# Altium schematic symbol library Блок вычислительный 1b.SchLib: 64 symbols
Pins are listed as number, name and electrical type; pins without a type are passive.

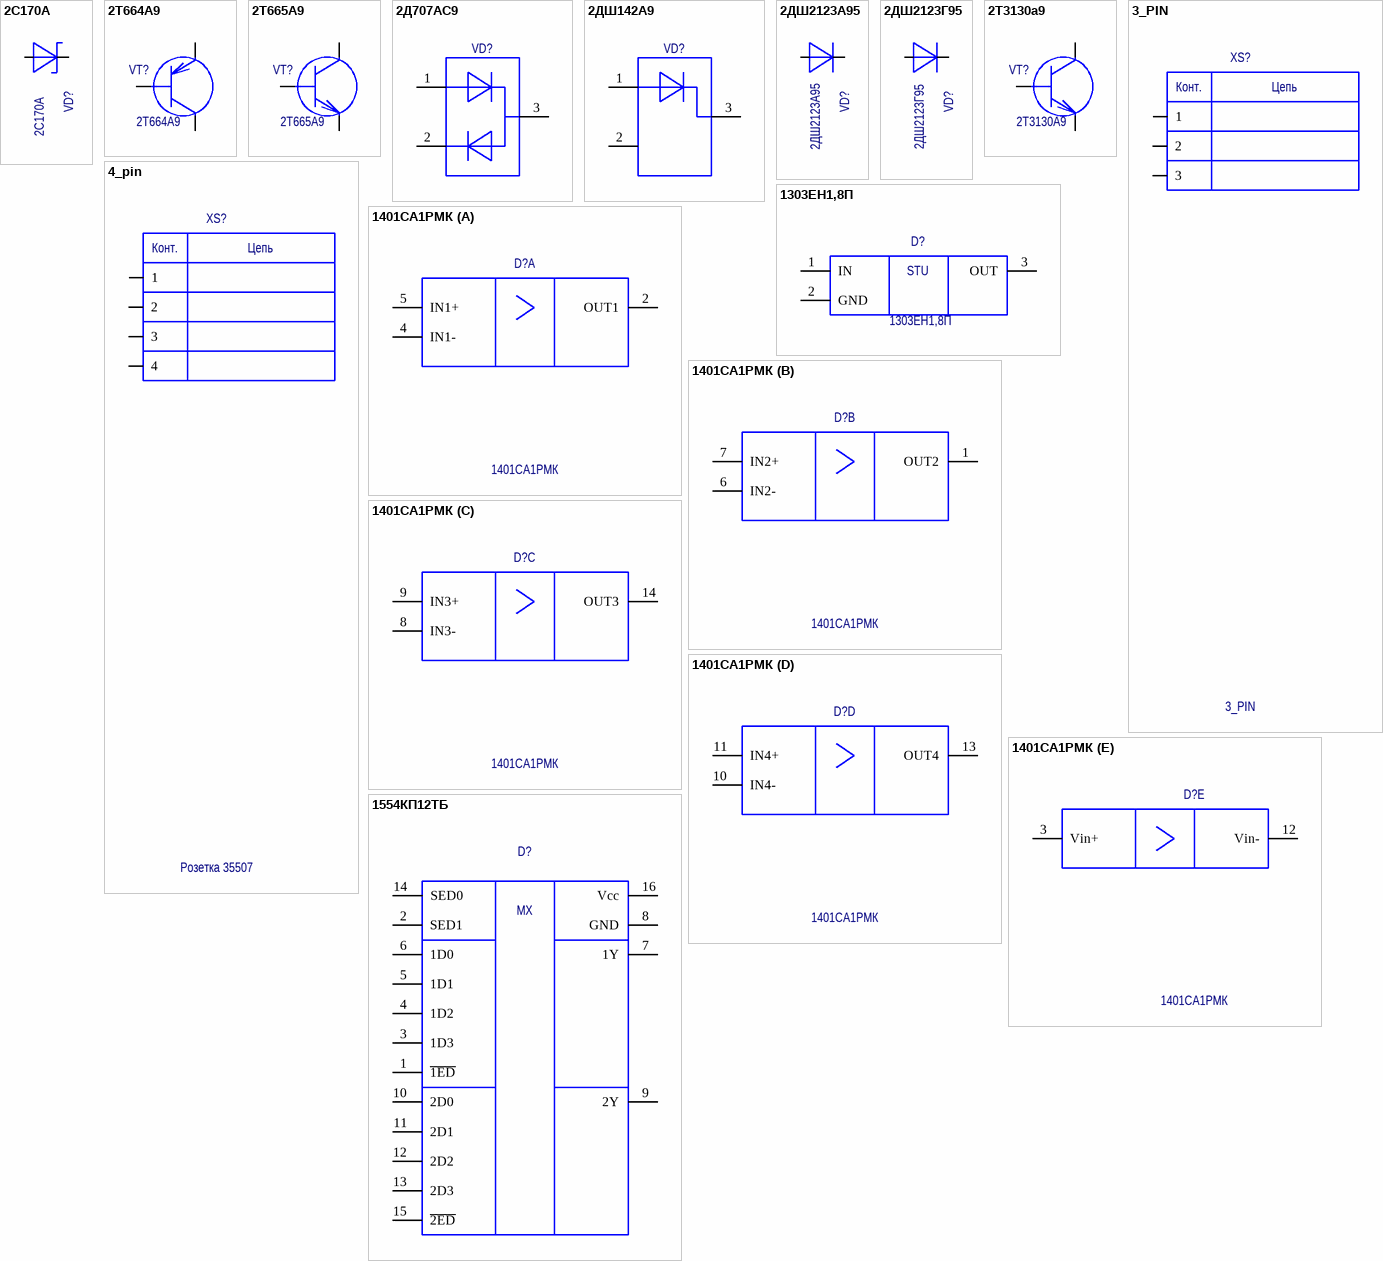
[diagram p0: symbols 2C170A to 1554КП12ТБ]

## 2C170A
designator VD?, comment 2С170А
сбтабилитрон на 7В; TU: ХЫ3.369.004ТУ; TUHolder: ОАО "Саранский завод точных приборов"; TypePrefix: VD; Value: *; PartNumber: 2С170А
footprint 2C170A
pins: 1, 2

## 2T664A9
designator VT?  PartNumber: 2T664A9  (hidden comment: *)
pnp кремниевый транзистор; PackegeType: КТ-47; TU: аА0.339.559ТУ; TUHolder: ЗАО "Группа Кремний Эл"; TypePrefix: Транзистор
pins: 1, 2, 3

## 2T665A9
designator VT?  PartNumber: 2T665A9  (hidden comment: *)
npn кремниевый транзистор; PackegeType: КТ-47; TU: аА0.339.559ТУ; TUHolder: ЗАО "Группа Кремний Эл"; TypePrefix: Транзистор
pins: 1, 2, 3

## 2Д707АС9
designator VD?  (value not drawn)
2Д707АС9 диод импульсный; TU: аА0.339.583ТУ; TUHolder: ООО "НПК ДАЛЕКС"; TypePrefix: VD; Value: *; PartNumber: 2Д707АС9
pins: 1, 2, 3

## 2ДШ142А9
designator VD?  (value not drawn)
2ДШ142А9 кремниевый эпитаксиально-планарный диод; TU: АЕЯР.432120.554ТУ; PackegeType: КТ-46А; TUHolder: "ИНТЕГРАЛ"; TypePrefix: VD; Value: *; PartNumber: 2ДШ142А9
pins: 1, 2, 3

## 2ДШ2123А95
designator VD?
Диод Шоттки; TU: АЕЯР.432120.567ТУ; PackegeType: КТ-99-1; TUHolder: ОА ВЗПП-С; TypePrefix: VD; Value: *; PartNumber: 2ДШ2123А95
footprint 2C170A
pins: 2, 3

## 2ДШ2123Г95
designator VD?
Диод Шоттки; TU: АЕЯР.432120.567ТУ; PackegeType: КТ-99-1; TUHolder: ОА ВЗПП-С; TypePrefix: VD; Value: *; PartNumber: 2ДШ2123Г95
footprint 2C170A
pins: 2, 3

## 2Т3130а9
designator VT?  PartNumber: 2Т3130А9  (hidden comment: *)
npn кремниевый транзистор; PackegeType: КТ-46; TU: аА0.339.569ТУ; TUHolder: НПК "Далекс"; TypePrefix: Транзистор
pins: 1, 2, 3

## 3_PIN
designator XS?
Розетка 35507, 3 контакта, Molex; PartNumber: Розетка 35507-0300, Molex
pins: 1, 2, 3
text: Конт.; Цепь

## 4_pin
designator XS?, comment Розетка 35507
Розетка 35507, 4 контакта,MOLEX; PartNumber: Розетка 35507-0400, Molex
pins: 1, 2, 3, 4
text: Конт.; Цепь

## 1303ЕН1,8П
designator D?
Value: 1303ЕН1,8П АЕЯР.431420.638ТУ; PartNumber: 1303ЕН1,8П
pins: 1 IN, 2 GND, 3 OUT
text: STU

## 1401СА1РМК
designator D?
Счетверенный компаратор напряжения; TU: АЕЯР.431000.815-03ТУ; TUHolder: ОКБ "МЭЛ"; TypePrefix: D; PackegeType: 201.14-10; PartNumber: 1401СА1РМК
part A pins: 2 OUT1, 4 IN1-, 5 IN1+
part B pins: 1 OUT2, 6 IN2-, 7 IN2+
part C pins: 8 IN3-, 9 IN3+, 14 OUT3
part D pins: 10 IN4-, 11 IN4+, 13 OUT4
part E pins: 3 Vin+, 12 Vin-

## 1554КП12ТБ
designator D?  (value not drawn)
Два селектор-мультиплексора 4-1; TU: АЕЯР.431200.182-15ТУ; TUHolder: "Интеграл"; TypePrefix: D; PackegeType: 402.16-32; PartNumber: 1554КП12ТБ
pins: 1 ~{1ED}, 2 SED1, 3 1D3, 4 1D2, 5 1D1, 6 1D0, 7 1Y, 8 GND, 9 2Y, 10 2D0, 11 2D1, 12 2D2, 13 2D3, 14 SED0, 15 ~{2ED}, 16 Vcc
text: MX

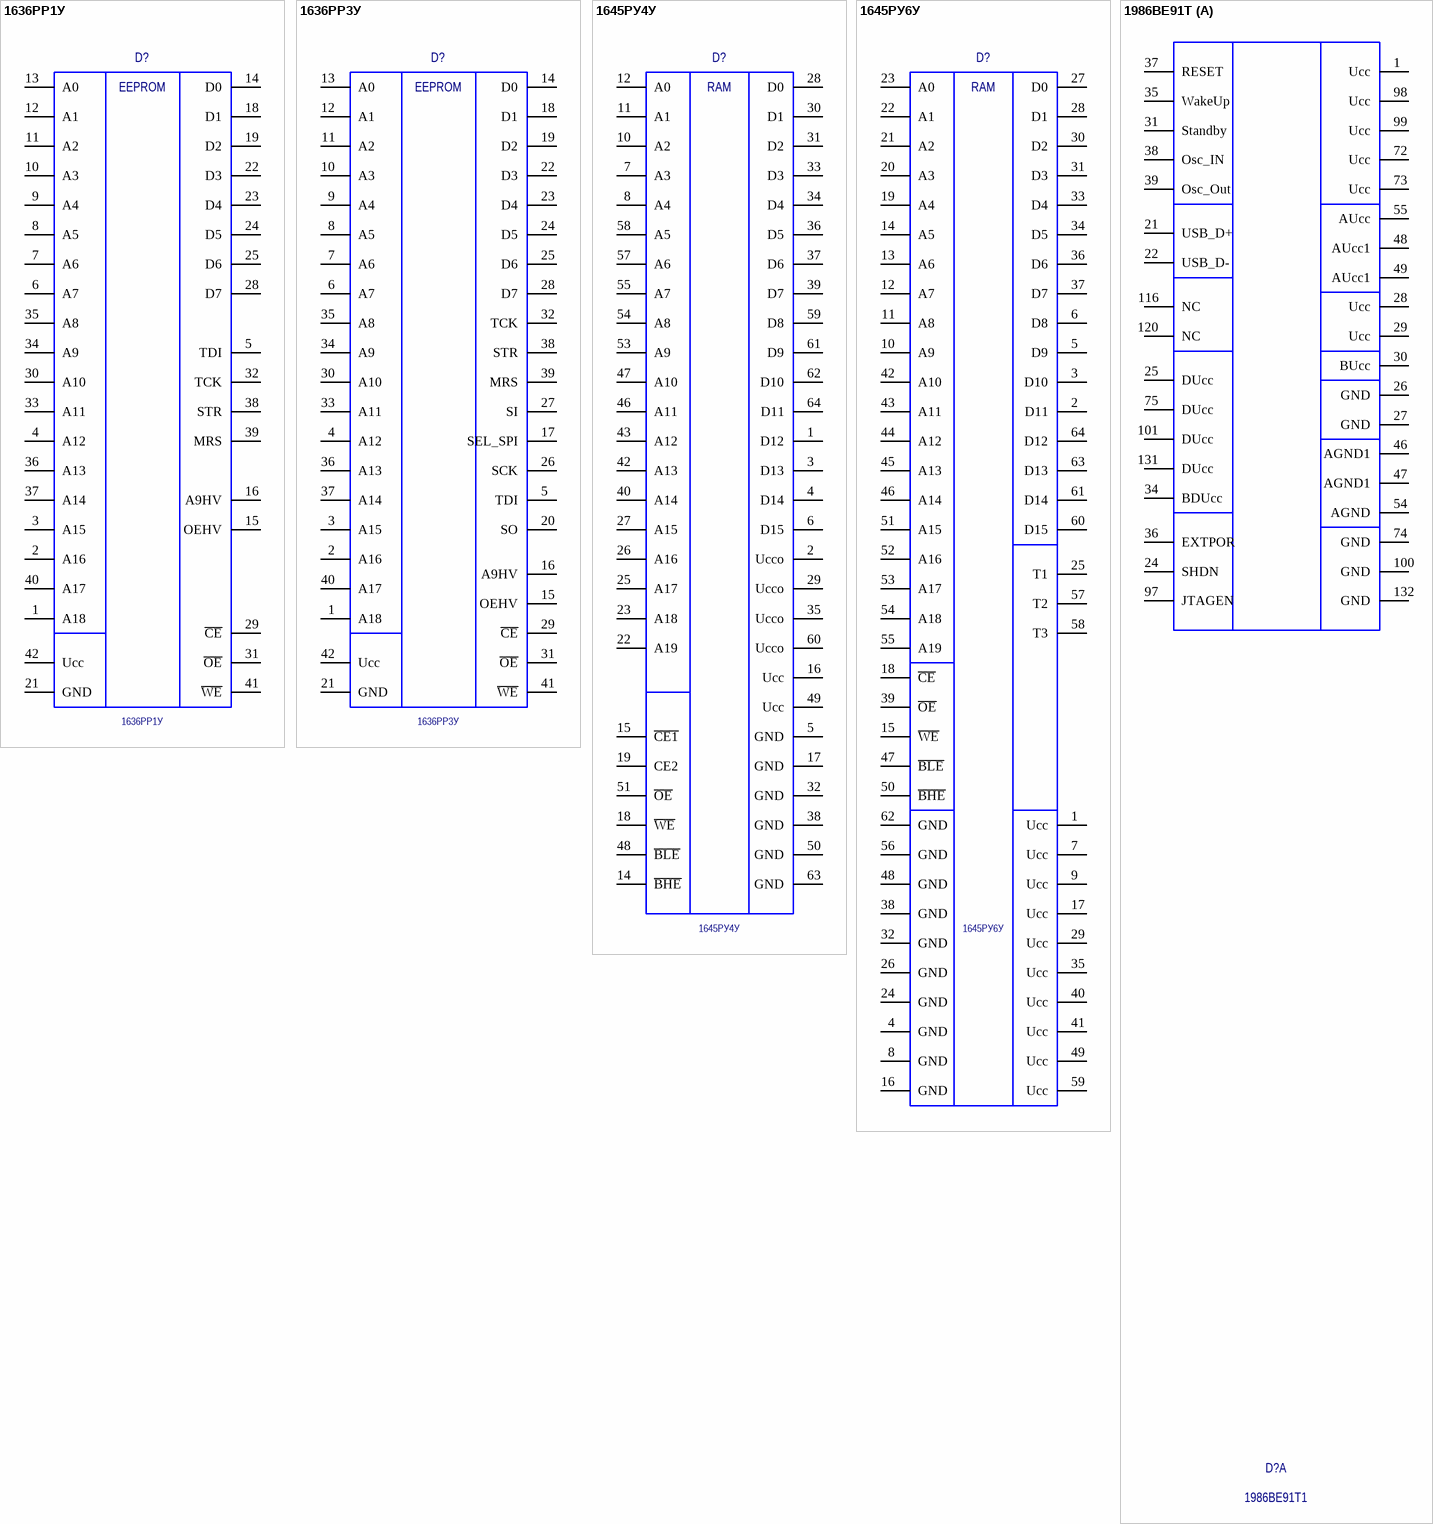
[diagram p1: symbols 1636РР1У to 1986BE91T]

## 1636РР1У
designator D?
ПЗУ Flash; TU: АЕЯР.431210.647ТУ; TUHolder: ЗАО "ПКК Миландр"; TypePrefix: D; PartNumber: 1636РР1У
pins: 1 A18, 2 A16, 3 A15, 4 A12, 5 TDI, 6 A7, 7 A6, 8 A5, 9 A4, 10 A3, 11 A2, 12 A1, 13 A0, 14 D0, 15 OEHV, 16 A9HV, 17 hidden, 18 D1, 19 D2, 20 hidden, 21 GND, 22 D3, 23 D4, 24 D5, 25 D6, 26 hidden, 27 hidden, 28 D7, 29 ~{CE}, 30 A10, 31 ~{OE}, 32 TCK, 33 A11, 34 A9, 35 A8, 36 A13, 37 A14, 38 STR, 39 MRS, 40 A17, 41 ~{WE}, 42 Ucc
text: EEPROM

## 1636РР3У
designator D?
ПЗУ Flash; PackegeType: Н14.42-1В; TU: АЕНВ.431210.157ТУ; TUHolder: ЗАО "ПКК Миландр"; TypePrefix: D; PartNumber: 1636РР3У
pins: 1 A18, 2 A16, 3 A15, 4 A12, 5 TDI, 6 A7, 7 A6, 8 A5, 9 A4, 10 A3, 11 A2, 12 A1, 13 A0, 14 D0, 15 OEHV, 16 A9HV, 17 SEL_SPI, 18 D1, 19 D2, 20 SO, 21 GND, 22 D3, 23 D4, 24 D5, 25 D6, 26 SCK, 27 SI, 28 D7, 29 ~{CE}, 30 A10, 31 ~{OE}, 32 TCK, 33 A11, 34 A9, 35 A8, 36 A13, 37 A14, 38 STR, 39 MRS, 40 A17, 41 ~{WE}, 42 Ucc
text: EEPROM

## 1645РУ4У
designator D?
ОЗУ SRAM; TU: АЕЯР.431220.643ТУ; TUHolder: ЗАО "ПКК Миландр"; TypePrefix: D; PartNumber: 1645РУ4У
pins: 1 D12, 2 Ucco, 3 D13, 4 D14, 5 GND, 6 D15, 7 A3, 8 A4, 9 hidden, 10 A2, 11 A1, 12 A0, 13 hidden, 14 ~{BHE}, 15 ~{CE1}, 16 Ucc, 17 GND, 18 ~{WE}, 19 CE2, 20 hidden, 21 hidden, 22 A19, 23 A18, 24 hidden, 25 A17, 26 A16, 27 A15, 28 D0, 29 Ucco, 30 D1, 31 D2, 32 GND, 33 D3, 34 D4, 35 Ucco, 36 D5, 37 D6, 38 GND, 39 D7, 40 A14, 41 hidden, 42 A13, 43 A12, 44 hidden, 45 hidden, 46 A11, 47 A10, 48 ~{BLE}, 49 Ucc, 50 GND, 51 ~{OE}, 52 hidden, 53 A9, 54 A8, 55 A7, 56 hidden, 57 A6, 58 A5, 59 D8, 60 Ucco, 61 D9, 62 D10, 63 GND, 64 D11
text: RAM

## 1645РУ6У
designator D?
ОЗУ SRAM; PackegeType: Н18.64-2В; TU: АЕHB.431220.179ТУ; TUHolder: ЗАО "ПКК Миландр"; TypePrefix: D; PartNumber: 1645РУ6У
pins: 1 Ucc, 2 D11, 3 D10, 4 GND, 5 D9, 6 D8, 7 Ucc, 8 GND, 9 Ucc, 10 A9, 11 A8, 12 A7, 13 A6, 14 A5, 15 ~{WE}, 16 GND, 17 Ucc, 18 ~{CE}, 19 A4, 20 A3, 21 A2, 22 A1, 23 A0, 24 GND, 25 T1, 26 GND, 27 D0, 28 D1, 29 Ucc, 30 D2, 31 D3, 32 GND, 33 D4, 34 D5, 35 Ucc, 36 D6, 37 D7, 38 GND, 39 ~{OE}, 40 Ucc, 41 Ucc, 42 A10, 43 A11, 44 A12, 45 A13, 46 A14, 47 ~{BLE}, 48 GND, 49 Ucc, 50 ~{BHE}, 51 A15, 52 A16, 53 A17, 54 A18, 55 A19, 56 GND, 57 T2, 58 T3, 59 Ucc, 60 D15, 61 D14, 62 GND, 63 D13, 64 D12
text: RAM

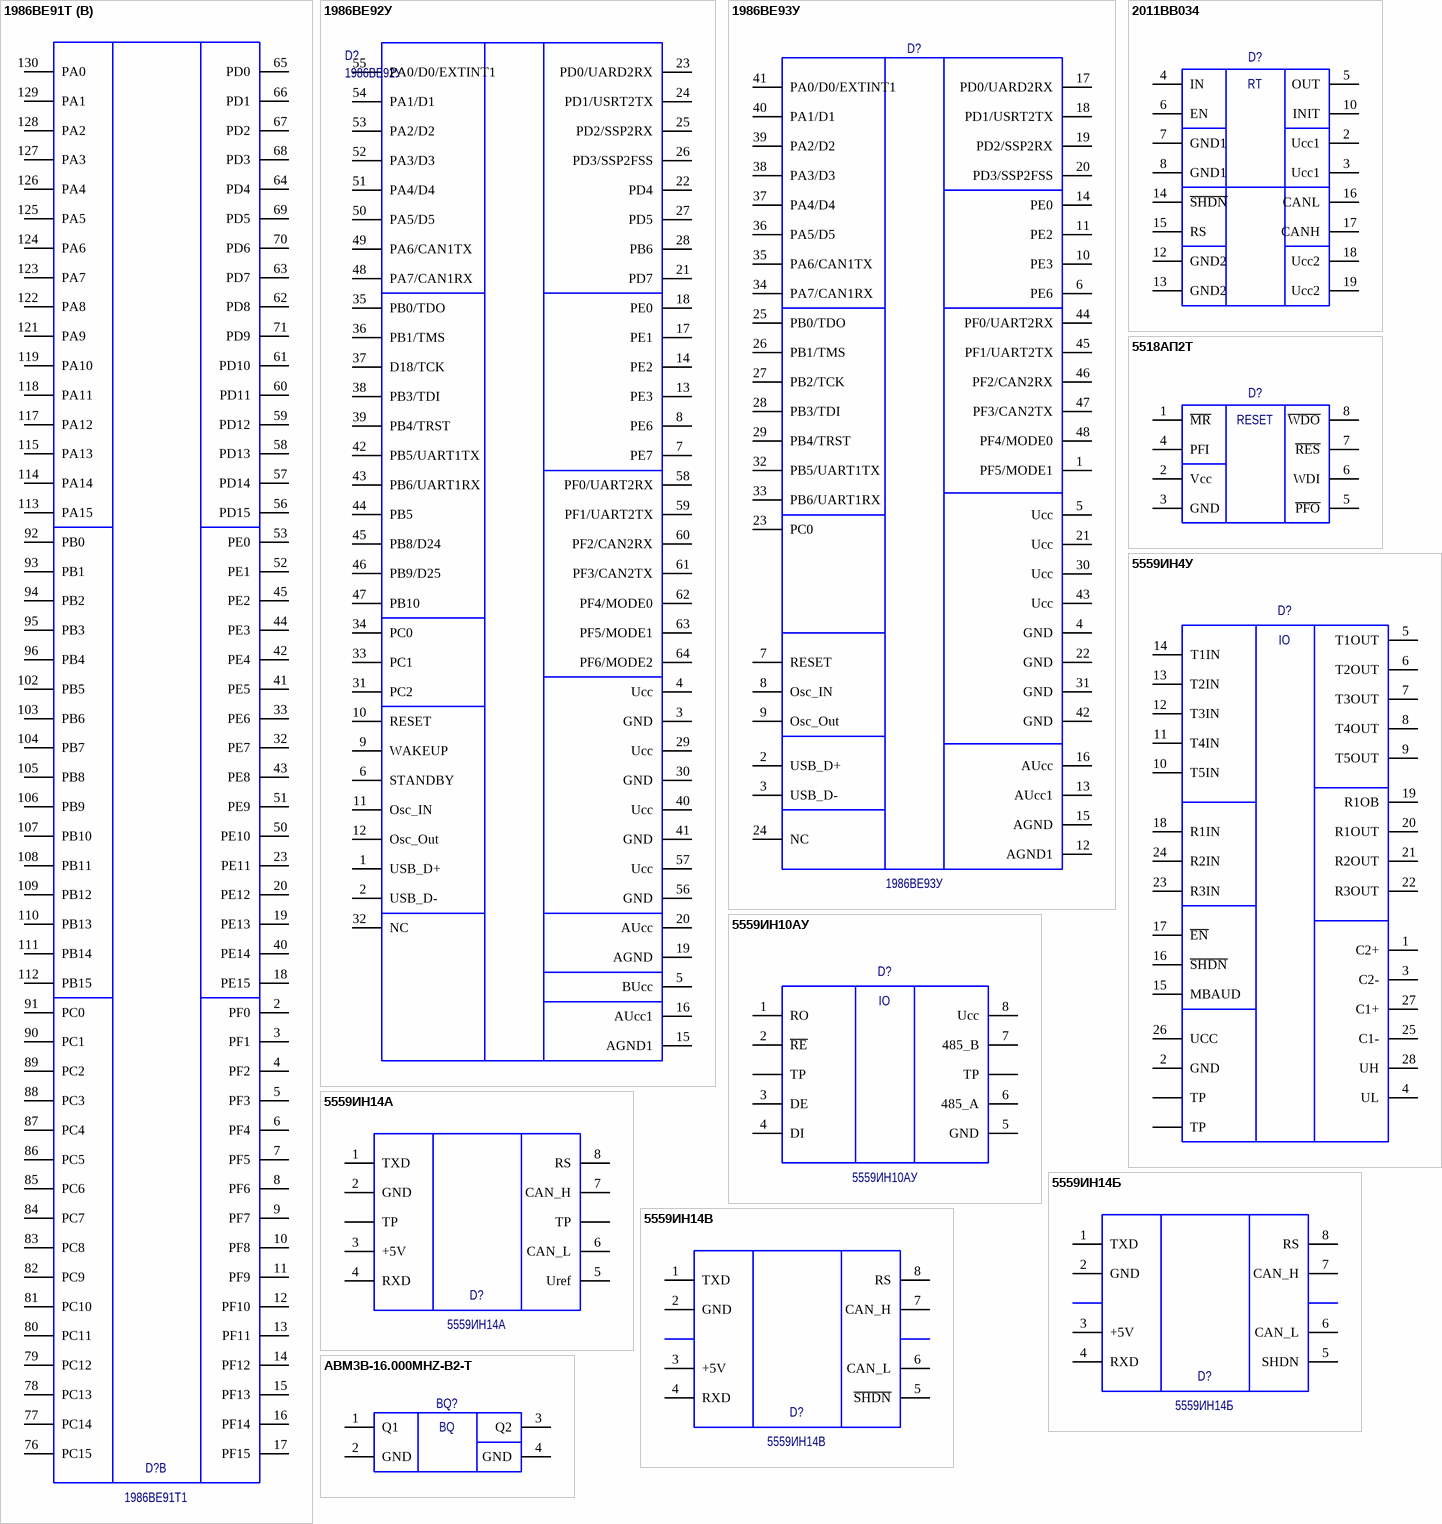
[diagram p2: symbols 1986BE91T to ABM3B-16.000MHZ-B2-T]

## 1986BE91T
designator D?, comment 1986ВЕ91Т1
1986ВЕ91Т 32-разрядный RISC микроконтроллер; TUHolder: ЗАО "ПКК Миландр"; TU: ТСКЯ.431296.001СП; PackegeType: 4229.132-3; TypePrefix: D; PartNumber: 1986ВЕ91Т
part A pins: 1 Ucc, 21 USB_D+, 22 USB_D-, 24 SHDN, 25 DUcc, 26 GND, 27 GND, 28 Ucc, 29 Ucc, 30 BUcc, 31 Standby, 34 BDUcc, 35 WakeUp, 36 EXTPOR, 37 RESET, 38 Osc_IN, 39 Osc_Out, 46 AGND1, 47 AGND1, 48 AUcc1, 49 AUcc1, 54 AGND, 55 AUcc, 72 Ucc, 73 Ucc, 74 GND, 75 DUcc, 97 JTAGEN, 98 Ucc, 99 Ucc, 100 GND, 101 DUcc, 116 NC, 120 NC, 131 DUcc, 132 GND
part B pins: 2 PF0, 3 PF1, 4 PF2, 5 PF3, 6 PF4, 7 PF5, 8 PF6, 9 PF7, 10 PF8, 11 PF9, 12 PF10, 13 PF11, 14 PF12, 15 PF13, 16 PF14, 17 PF15, 18 PE15, 19 PE13, 20 PE12, 23 PE11, 32 PE7, 33 PE6, 40 PE14, 41 PE5, 42 PE4, 43 PE8, 44 PE3, 45 PE2, 50 PE10, 51 PE9, 52 PE1, 53 PE0, 56 PD15, 57 PD14, 58 PD13, 59 PD12, 60 PD11, 61 PD10, 62 PD8, 63 PD7, 64 PD4, 65 PD0, 66 PD1, 67 PD2, 68 PD3, 69 PD5, 70 PD6, 71 PD9, 76 PC15, 77 PC14, 78 PC13, 79 PC12, 80 PC11, 81 PC10, 82 PC9, 83 PC8, 84 PC7, 85 PC6, 86 PC5, 87 PC4, 88 PC3, 89 PC2, 90 PC1, 91 PC0, 92 PB0, 93 PB1, 94 PB2, 95 PB3, 96 PB4, 102 PB5, 103 PB6, 104 PB7, 105 PB8, 106 PB9, 107 PB10, 108 PB11, 109 PB12, 110 PB13, 111 PB14, 112 PB15, 113 PA15, 114 PA14, 115 PA13, 117 PA12, 118 PA11, 119 PA10, 121 PA9, 122 PA8, 123 PA7, 124 PA6, 125 PA5, 126 PA4, 127 PA3, 128 PA2, 129 PA1, 130 PA0

## 1986ВЕ92У
designator D?
1986ВЕ92У 32-разрядный RISC микроконтроллер; PackegeType: Н.18.64-1В; TU: АЕЯР.431290.711 ТУ; TUHolder: ЗАО "ПКК Миландр"; TypePrefix: D; PartNumber: 1986ВЕ92У
pins: 1 USB_D+, 2 USB_D-, 3 GND, 4 Ucc, 5 BUcc, 6 STANDBY, 7 PE7, 8 PE6, 9 WAKEUP, 10 RESET, 11 Osc_IN, 12 Osc_Out, 13 PE3, 14 PE2, 15 AGND1, 16 AUcc1, 17 PE1, 18 PE0, 19 AGND, 20 AUcc, 21 PD7, 22 PD4, 23 PD0/UARD2RX, 24 PD1/USRT2TX, 25 PD2/SSP2RX, 26 PD3/SSP2FSS, 27 PD5, 28 PB6, 29 Ucc, 30 GND, 31 PC2, 32 NC, 33 PC1, 34 PC0, 35 PB0/TDO, 36 PB1/TMS, 37 D18/TCK, 38 PB3/TDI, 39 PB4/TRST, 40 Ucc, 41 GND, 42 PB5/UART1TX, 43 PB6/UART1RX, 44 PB5, 45 PB8/D24, 46 PB9/D25, 47 PB10, 48 PA7/CAN1RX, 49 PA6/CAN1TX, 50 PA5/D5, 51 PA4/D4, 52 PA3/D3, 53 PA2/D2, 54 PA1/D1, 55 PA0/D0/EXTINT1, 56 GND, 57 Ucc, 58 PF0/UART2RX, 59 PF1/UART2TX, 60 PF2/CAN2RX, 61 PF3/CAN2TX, 62 PF4/MODE0, 63 PF5/MODE1, 64 PF6/MODE2

## 1986ВЕ93У
designator D?
1986BE93У 32-разрядный RISC микроконтроллер; TU: АЕЯР.431290.711 ТУ; PackegeType: Н.16.48-1В; TUHolder: ЗАО "ПКК Миландр"; TypePrefix: D; Value: *; PartNumber: 1986ВЕ93У
footprint H16.48-1B
pins: 1 PF5/MODE1, 2 USB_D+, 3 USB_D-, 4 GND, 5 Ucc, 6 PE6, 7 RESET, 8 Osc_IN, 9 Osc_Out, 10 PE3, 11 PE2, 12 AGND1, 13 AUcc1, 14 PE0, 15 AGND, 16 AUcc, 17 PD0/UARD2RX, 18 PD1/USRT2TX, 19 PD2/SSP2RX, 20 PD3/SSP2FSS, 21 Ucc, 22 GND, 23 PC0, 24 NC, 25 PB0/TDO, 26 PB1/TMS, 27 PB2/TCK, 28 PB3/TDI, 29 PB4/TRST, 30 Ucc, 31 GND, 32 PB5/UART1TX, 33 PB6/UART1RX, 34 PA7/CAN1RX, 35 PA6/CAN1TX, 36 PA5/D5, 37 PA4/D4, 38 PA3/D3, 39 PA2/D2, 40 PA1/D1, 41 PA0/D0/EXTINT1, 42 GND, 43 Ucc, 44 PF0/UART2RX, 45 PF1/UART2TX, 46 PF2/CAN2RX, 47 PF3/CAN2TX, 48 PF4/MODE0

## 2011ВВ034
designator D?  (value not drawn)
Микросборка CAN с гальванической развязкой; TU: АЕЯР.431230.880ТУ; TUHolder: ЗАО "ПКК Миландр"; TypePrefix: D; Value: *; PackegeType: 4140.20-1; PartNumber: 2011ВВ034
pins: 1 NC hidden, 2 Ucc1, 3 Ucc1, 4 IN, 5 OUT, 6 EN, 7 GND1, 8 GND1, 9 NC hidden, 10 INIT, 11 NC hidden, 12 GND2, 13 GND2, 14 ~{SHDN}, 15 RS, 16 CANL, 17 CANH, 18 Ucc2, 19 Ucc2, 20 NC hidden
text: RT

## 5518АП2Т
designator D?  (value not drawn)
5518АП2Т супервизор; TU: АЕЯР.431310.657ТУ; Value: *; PartNumber: 5518АП2Т
pins: 1 ~{MR}, 2 Vcc, 3 GND, 4 PFI, 5 ~{PFO}, 6 WDI, 7 ~{RES}, 8 ~{WDO}
text: RESET

## 5559ИН4У
designator D?  (value not drawn)
RS-232 приемопередатчик ЗАО "ППК Миландр"; TU: АЕЯР.431230.460ТУ; PackegeType: Н09.28-1В; TUHolder: ЗАО "ПКК Миландр"; TypePrefix: D; PartNumber: 5559ИН4У
pins: 1 C2+, 2 GND, 3 C2-, 4 UL, 5 T1OUT, 6 T2OUT, 7 T3OUT, 8 T4OUT, 9 T5OUT, 10 T5IN, 11 T4IN, 12 T3IN, 13 T2IN, 14 T1IN, 15 MBAUD, 16 ~{SHDN}, 17 ~{EN}, 18 R1IN, 19 R1OB, 20 R1OUT, 21 R2OUT, 22 R3OUT, 23 R3IN, 24 R2IN, 25 C1-, 26 UCC, 27 C1+, 28 UH, TP1 TP, TP2 TP
text: IO

## 5559ИН10АУ
designator D?
RS-485 приемопередатчик ЗАО "ППК Миландр"; PackegeType: Н02.8-1В; TU: АЕЯР.431230.645ТУ; TUHolder: ЗАО "ПКК Миландр"; TypePrefix: D; PartNumber: 5559ИН10АУ
pins: 1 RO, 2 ~{RE}, 3 DE, 4 DI, 5 GND, 6 485_A, 7 485_B, 8 Ucc, 9 TP, 10 TP
text: IO

## 5559ИН14А
designator D?
приемопередатчик интерфейса CAN ЗАО "ППК Миландр"; PackegeType: Н02.8-1В; TU: АЕЯР.431230.652ТУ; TUHolder: ЗАО "ПКК Миландр"; TypePrefix: D; PartNumber: 5559ИН14А
pins: 1 TXD, 2 GND, 3 +5V, 4 RXD, 5 Uref, 6 CAN_L, 7 CAN_H, 8 RS, TP1 TP, TP2 TP

## 5559ИН14Б
designator D?
IO; PackegeType: Н02.8-1В; TU: АЕЯР.431230.652ТУ; TUHolder: ЗАО "ПКК Миландр"; TypePrefix: D; PartNumber: 5559ИН14Б
pins: 1 TXD, 2 GND, 3 +5V, 4 RXD, 5 SHDN, 6 CAN_L, 7 CAN_H, 8 RS

## 5559ИН14В
designator D?
IO; PackegeType: Н02.8-1В; TU: АЕЯР.431230.652ТУ; TUHolder: ЗАО "ПКК Миландр"; TypePrefix: D; PartNumber: 5559ИН14В
pins: 1 TXD, 2 GND, 3 +5V, 4 RXD, 5 ~{SHDN}, 6 CAN_L, 7 CAN_H, 8 RS

## ABM3B-16.000MHZ-B2-T
designator BQ?  (value not drawn)
Кварцевый резонатор; TUHolder: "ABRACON"; TypePrefix: BQ; PartNumber: ABM3B-16.000MHZ-B2-T
pins: 1 Q1, 2 GND, 3 Q2, 4 GND

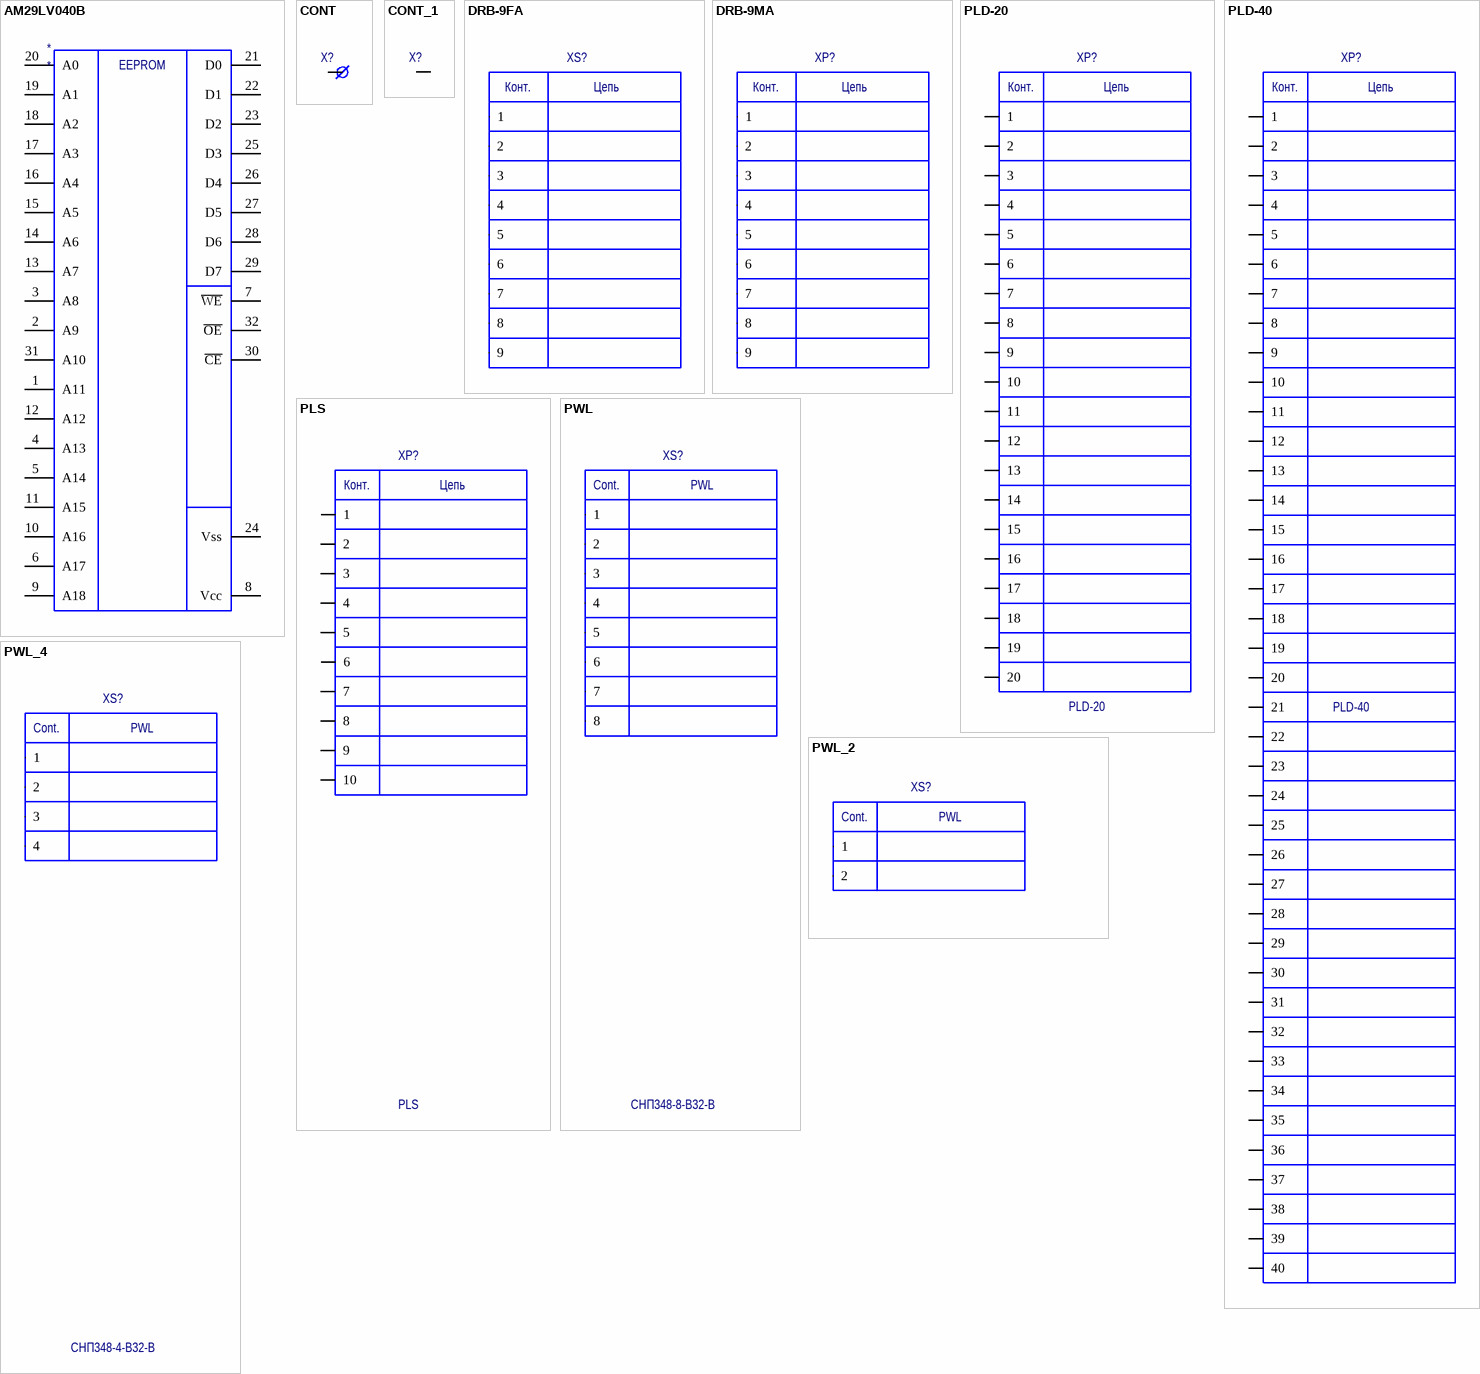
[diagram p3: symbols AM29LV040B to PWL_4]

## AM29LV040B
designator *
FLASH память; PartNumber: AM29LV040B; PackegeType: 32-Pin PLCC; TUHolder: AMD; TypePrefix: D
pins: 1 A11, 2 A9, 3 A8, 4 A13, 5 A14, 6 A17, 7 ~{WE}, 8 Vcc, 9 A18, 10 A16, 11 A15, 12 A12, 13 A7, 14 A6, 15 A5, 16 A4, 17 A3, 18 A2, 19 A1, 20 A0, 21 D0, 22 D1, 23 D2, 24 Vss, 25 D3, 26 D4, 27 D5, 28 D6, 29 D7, 30 ~{CE}, 31 A10, 32 ~{OE}
text: EEPROM

## CONT
designator X?  (value not drawn)
CONT1_SMD; PartNumber: контактное поле; Value: *
pins: 1

## CONT_1
designator X?, comment CONT  (value not drawn)
CONT1_SMD; PartNumber: контактное поле; Value: *
pins: 1

## DRB-9FA
designator XS?  (value not drawn)
DRB-9FA Розетка 9 pin на плату 7.2мм; PartNumber: DRB-9FA
pins: 1, 2, 3, 4, 5, 6, 7, 8, 9
text: Конт.; Цепь

## DRB-9MA
designator XP?  (value not drawn)
DRB-9MA Вилка 9 pin на плату 7.2мм; PartNumber: DRB-9MA
pins: 1, 2, 3, 4, 5, 6, 7, 8, 9
text: Конт.; Цепь

## PLD-20
designator XP?
PartNumber: СНП383-20ВП21-2; TU: РЮМК.430420.018 ТУ
pins: 1, 2, 3, 4, 5, 6, 7, 8, 9, 10, 11, 12, 13, 14, 15, 16, 17, 18, 19, 20
text: Конт.; Цепь

## PLD-40
designator XP?
PartNumber: СНП346-40ВП21-2В; TU: РЮМК.430420.011ТУ
pins: 1, 2, 3, 4, 5, 6, 7, 8, 9, 10, 11, 12, 13, 14, 15, 16, 17, 18, 19, 20, 21, 22, 23, 24, 25, 26, 27, 28, 29, 30, 31, 32, 33, 34, 35, 36, 37, 38, 39, 40
text: Конт.; Цепь

## PLS
designator XP?
PLS-10; PartNumber: СНП393-10ВП21-1-В; TU: РЮМК.430420.011 ТУ
pins: 1, 2, 3, 4, 5, 6, 7, 8, 9, 10
text: Конт.; Цепь

## PWL
designator XS?, comment СНП348-8-В32-В
PWL-8; TU: РЮМК.430420.013 ТУ; PartNumber: СНП348-8-В32-В
pins: 1, 2, 3, 4, 5, 6, 7, 8
text: Cont.

## PWL_2
designator XS?, comment СНП348-2-В32-В
PWL-2; TU: РЮМК.430420.013 ТУ; PartNumber: СНП348-2-В32-В
pins: 1, 2
text: Cont.; PWL

## PWL_4
designator XS?, comment СНП348-4-В32-В
PWL-4; TU: РЮМК.430420.013 ТУ; PartNumber: СНП348-4-В32-В
pins: 1, 2, 3, 4
text: Cont.; PWL

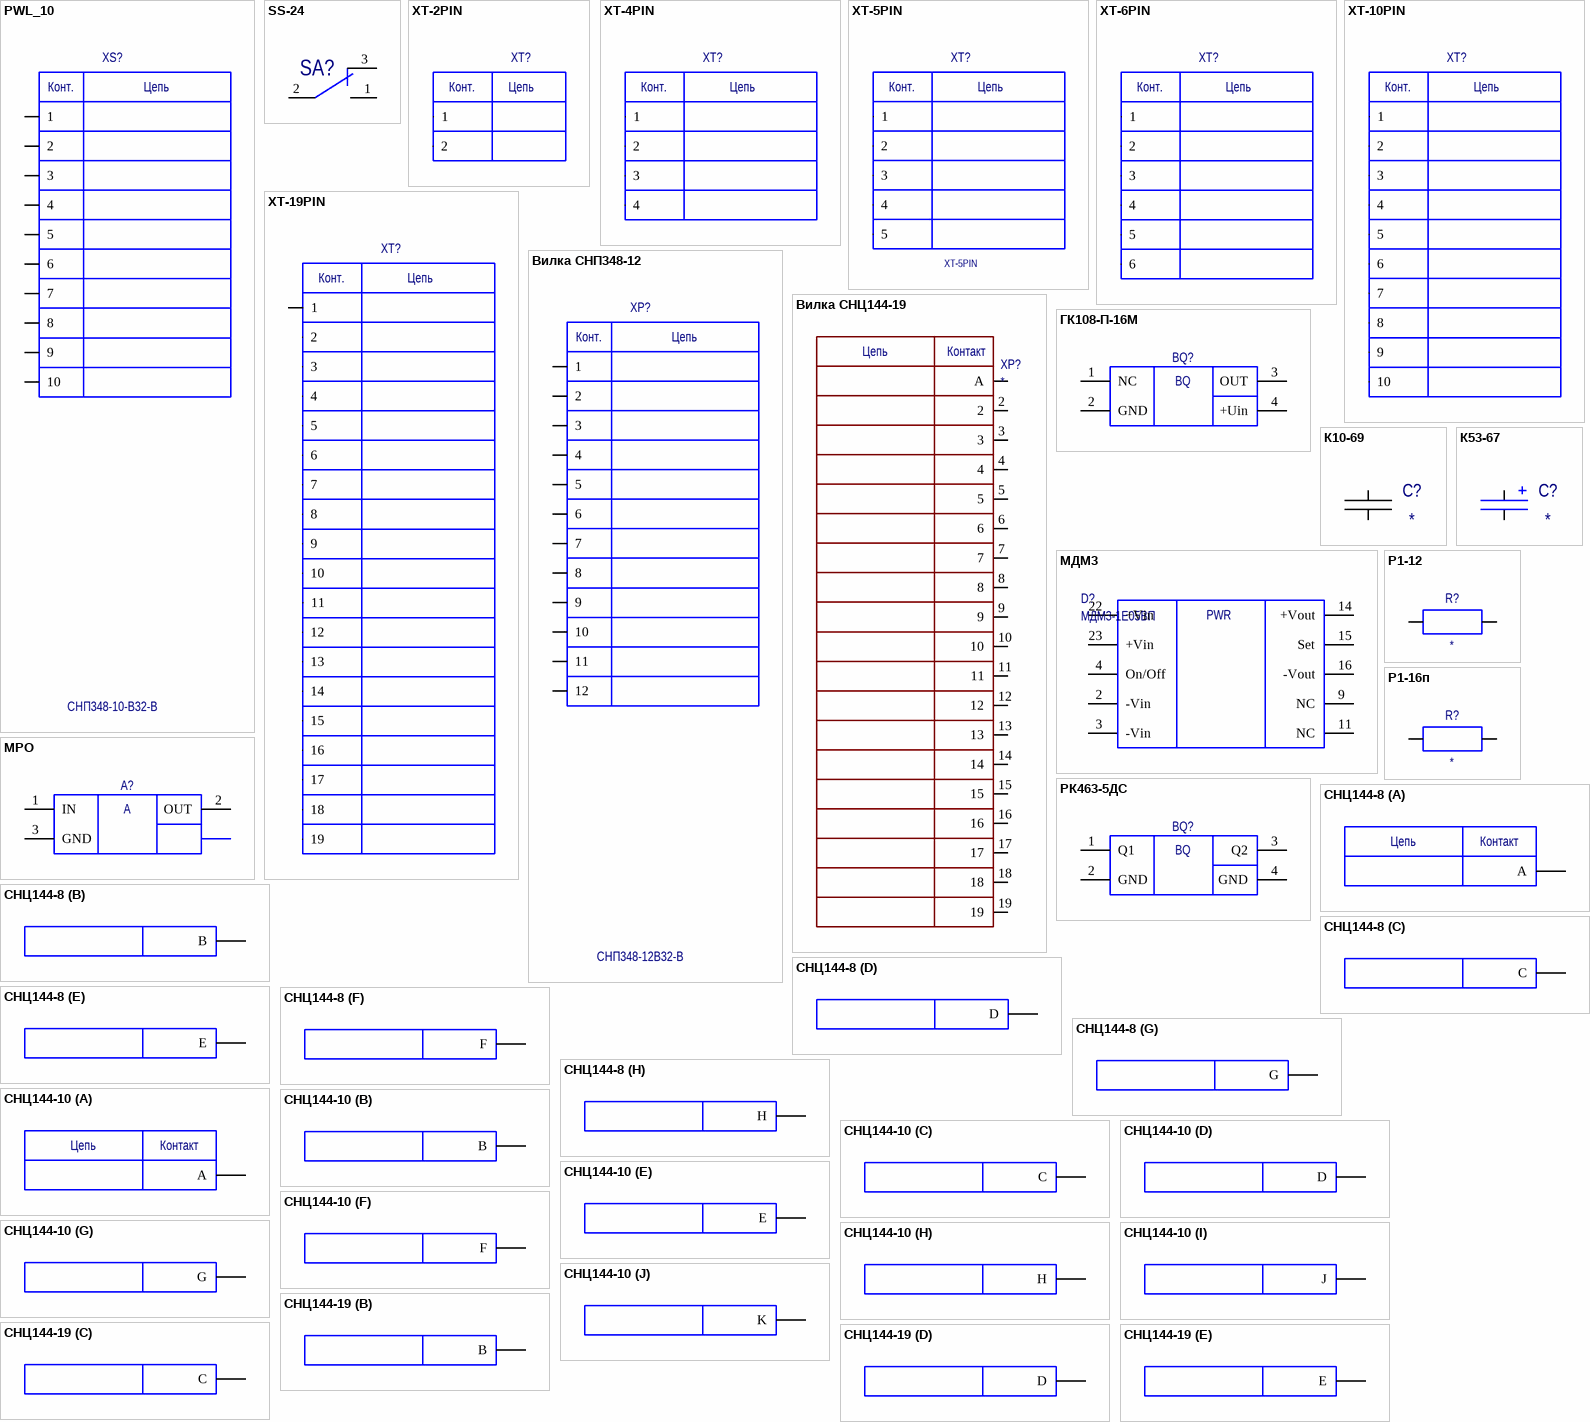
[diagram p4: symbols PWL_10 to СНЦ144-19]

## PWL_10
designator XS?, comment СНП348-10-В32-В
PWL-10; TU: РЮМК.430420.013 ТУ; PartNumber: СНП348-10-В32-В
pins: 1, 2, 3, 4, 5, 6, 7, 8, 9, 10
text: Конт.; Цепь

## SS-24
designator SA?  (value not drawn)
Переключатель движковый SS-24; Value: BOOT SELECT; PartNumber: SS-24
footprint SS-24
pins: 1, 2, 3

## XT-2PIN
designator XT?  (value not drawn)
Вилка для перемычки 2pin 2.54; PartNumber: Перемычка; PackegeType: 2.54
pins: 1, 2
text: Конт.; Цепь

## XT-4PIN
designator XT?  (value not drawn)
PartNumber: контактное поле
pins: 1, 2, 3, 4
text: Конт.; Цепь

## XT-5PIN
designator XT?
pins: 1, 2, 3, 4, 5
text: Конт.; Цепь

## XT-6PIN
designator XT?  (value not drawn)
HU-7 розетка на кабель c контактами 2.54мм; PartNumber: контактное поле
pins: 1, 2, 3, 4, 5, 6
text: Конт.; Цепь

## XT-10PIN
designator XT?  (value not drawn)
PartNumber: контактное поле
pins: 1, 2, 3, 4, 5, 6, 7, 8, 9, 10
text: Конт.; Цепь

## XT-19PIN
designator XT?  (value not drawn)
PartNumber: контактное поле
pins: 1, 2, 3, 4, 5, 6, 7, 8, 9, 10, 11, 12, 13, 14, 15, 16, 17, 18, 19
text: Конт.; Цепь

## Вилка СНП348-12
designator XP?, comment СНП348-12В32-В
Вилка СНП348-12; TU: РЮМК.430420.013ТУ; TUHolder: АО "Карачевский завод Электродеталь", Россия, г. Карачев; PartNumber: СНП348-12В32-В
pins: 1, 2, 3, 4, 5, 6, 7, 8, 9, 10, 11, 12
text: Конт.; Цепь

## Вилка СНЦ144-19
designator XP?
pins: 2, 3, 4, 5, 6, 7, 8, 9, 10, 11, 12, 13, 14, 15, 16, 17, 18, 19, A
text: Цепь; Контакт

## ГК108-П-16М
designator BQ?  (value not drawn)
Кварцевый генератор; TU: АФТП.433520.007ТУ; TUHolder: ОАО "Лит-Фонон"; TypePrefix: BQ; PartNumber: ГК108-П-16М
pins: 1 NC, 2 GND, 3 OUT, 4 +Uin

## К10-69
designator C?
Керамический чип-конденсатор серии К10-79; PartNumber: К10-69в-*-* В- * ± *% *; TypePrefix: C; TU: АЖЯР.673511.002ТУ; TUHolder: ОАО НИИ "ГИРИКОНД"; Value: *; PackegeType: *
pins: 1, 2

## К53-67
designator C?
Оксидно-полупроводниковый танталовый чип-конденсатор серии К53-68; PartNumber: К53-67 "*"-* В-* мкФ ±*%; TypePrefix: C; TU: АЖЯР.673546.006 ТУ; TUHolder: ОАО НИИ "ГИРИКОНД"; Value: *; PackegeType: *
pins: 1, 2

## МДМ3
designator D?, comment МДМ3-1Е05ВП
DC-DC преобразователь; TU: БКЮС.430609.002-01 ТУ; TUHolder: Александер Электрик; TypePrefix: D; PartNumber: МДМ3-1Е05ВП
footprint THD15win
pins: 2 -Vin, 3 -Vin, 4 On/Off, 9 NC, 11 NC, 14 +Vout, 15 Set, 16 -Vout, 22 +Vin, 23 +Vin
text: PWR

## МРО
designator A?, comment МРО1-В2,5ДМУ  (value not drawn)
Модуль защиты и фильтрации; TU: БКЮС.468240.003-01 ТУ; TUHolder: Александр Электрик; TypePrefix: A; PartNumber: МРО1-В2,5ДМУ
pins: 1 IN, 2 OUT, 3 GND

## Р1-12
designator R?
Постоянные непроволочные безвыводные резисторы общего применения Р1-12; PartNumber: Р1-12-*-*±*%-*; TU: АЛЯР.434110.005 ТУ; TUHolder: ЗАО "РЕОМ"; TypePrefix: R; PackegeType: *; Value: *
pins: 1, 2

## Р1-16п
designator R?
Резисторы постоянные непроволочные Р1-16 (П).; PartNumber: Р1-16п-*-*±*%; TU: АЛЯР.434110.002 ТУ; TUHolder: ЗАО "РЕОМ"; TypePrefix: R; PackegeType: *; Value: *
pins: 1, 2

## РК463-5ДС
designator BQ?, comment Резонатор РК463-5ДС-16,0М  (value not drawn)
Кварцевый резонатор; TU: ТУ6321-011-07604008-07; TUHolder: "Пьезотрон"; TypePrefix: BQ; PartNumber: Резонатор РК463-5ДС-16,0М
pins: 1 Q1, 2 GND, 3 Q2, 4 GND

## СНЦ144-8
designator XP?  (value not drawn)
ВИЛКА СНЦ144-8 СОСТАВНАЯ; Value: Вилка СНЦ144-8/13ВП21-NWПС; TU: ЦСНК.430421.008ТУ
part A pins: A
part B pins: B
part C pins: C
part D pins: D
part E pins: E
part F pins: F
part G pins: G
part H pins: H
part A text: Цепь; Контакт

## СНЦ144-10
designator XP?  (value not drawn)
ВИЛКА СНЦ144-10 СОСТАВНАЯ; Value: Вилка СНЦ144-10/13ВП21-NWПС; TU: ЦСНК.430421.008ТУ
part A pins: A
part B pins: B
part C pins: C
part D pins: D
part E pins: E
part F pins: F
part G pins: G
part H pins: H
part I pins: J
part J pins: K
part A text: Цепь; Контакт

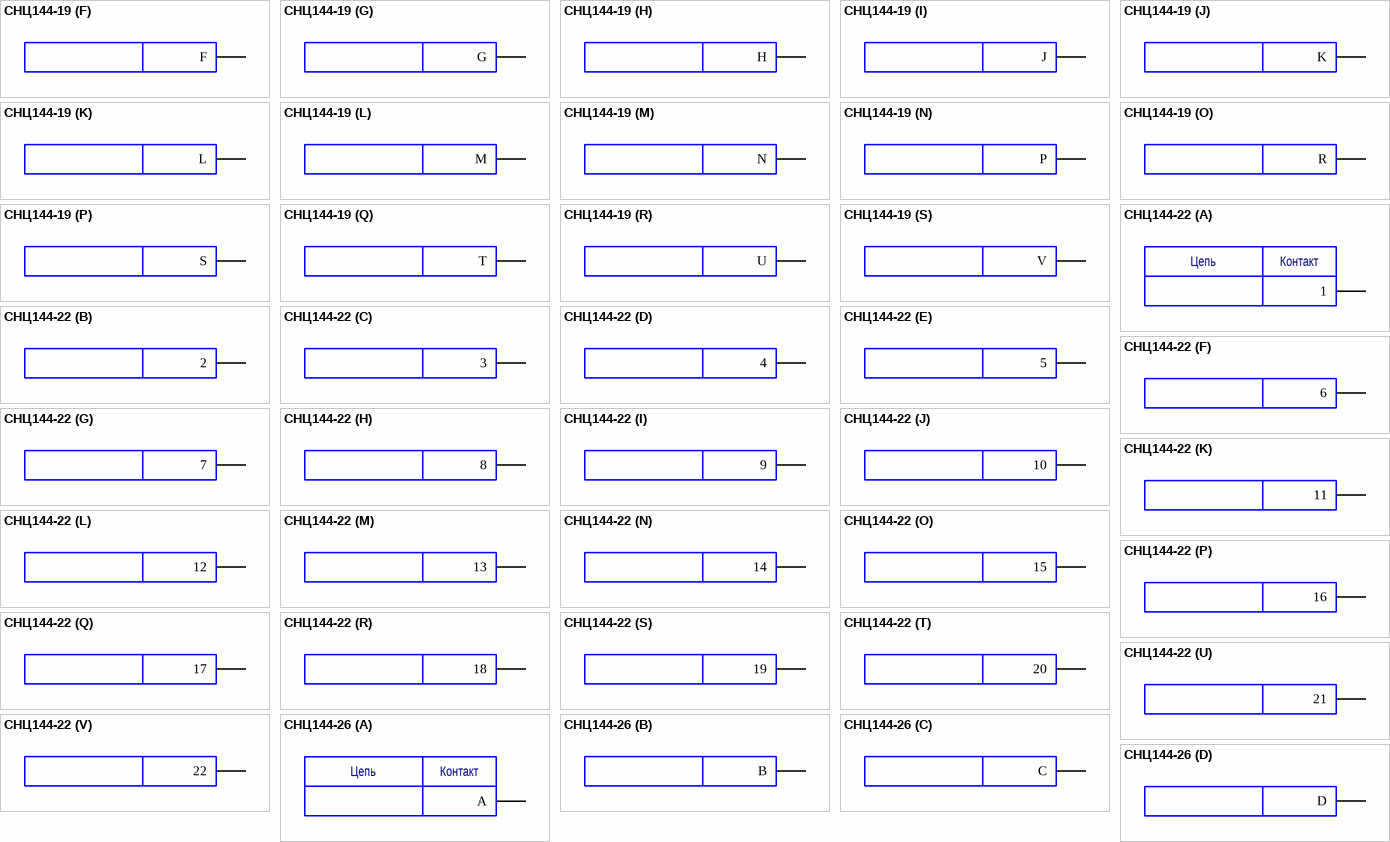
[diagram p5: symbols СНЦ144-19 to СНЦ144-26]

## СНЦ144-19
designator XP?  (value not drawn)
ВИЛКА СНЦ144-19 СОСТАВНАЯ; Value: Вилка СНЦ144-19/15ВП21-NWПС; TU: ЦСНК.430421.008ТУ
part B pins: B
part C pins: C
part D pins: D
part E pins: E
part F pins: F
part G pins: G
part H pins: H
part I pins: J
part J pins: K
part K pins: L
part L pins: M
part M pins: N
part N pins: P
part O pins: R
part P pins: S
part Q pins: T
part R pins: U
part S pins: V

## СНЦ144-22
designator XP?, comment СНЦ144-37  (value not drawn)
ВИЛКА СНЦ144-37 СОСТАВНАЯ; Value: Вилка СНЦ144-22/13ВП21-NWПС; TU: ЦСНК.430421.008ТУ; PartNumber: СНЦ144-37
part A pins: 1
part B pins: 2
part C pins: 3
part D pins: 4
part E pins: 5
part F pins: 6
part G pins: 7
part H pins: 8
part I pins: 9
part J pins: 10
part K pins: 11
part L pins: 12
part M pins: 13
part N pins: 14
part O pins: 15
part P pins: 16
part Q pins: 17
part R pins: 18
part S pins: 19
part T pins: 20
part U pins: 21
part V pins: 22
part A text: Цепь; Контакт

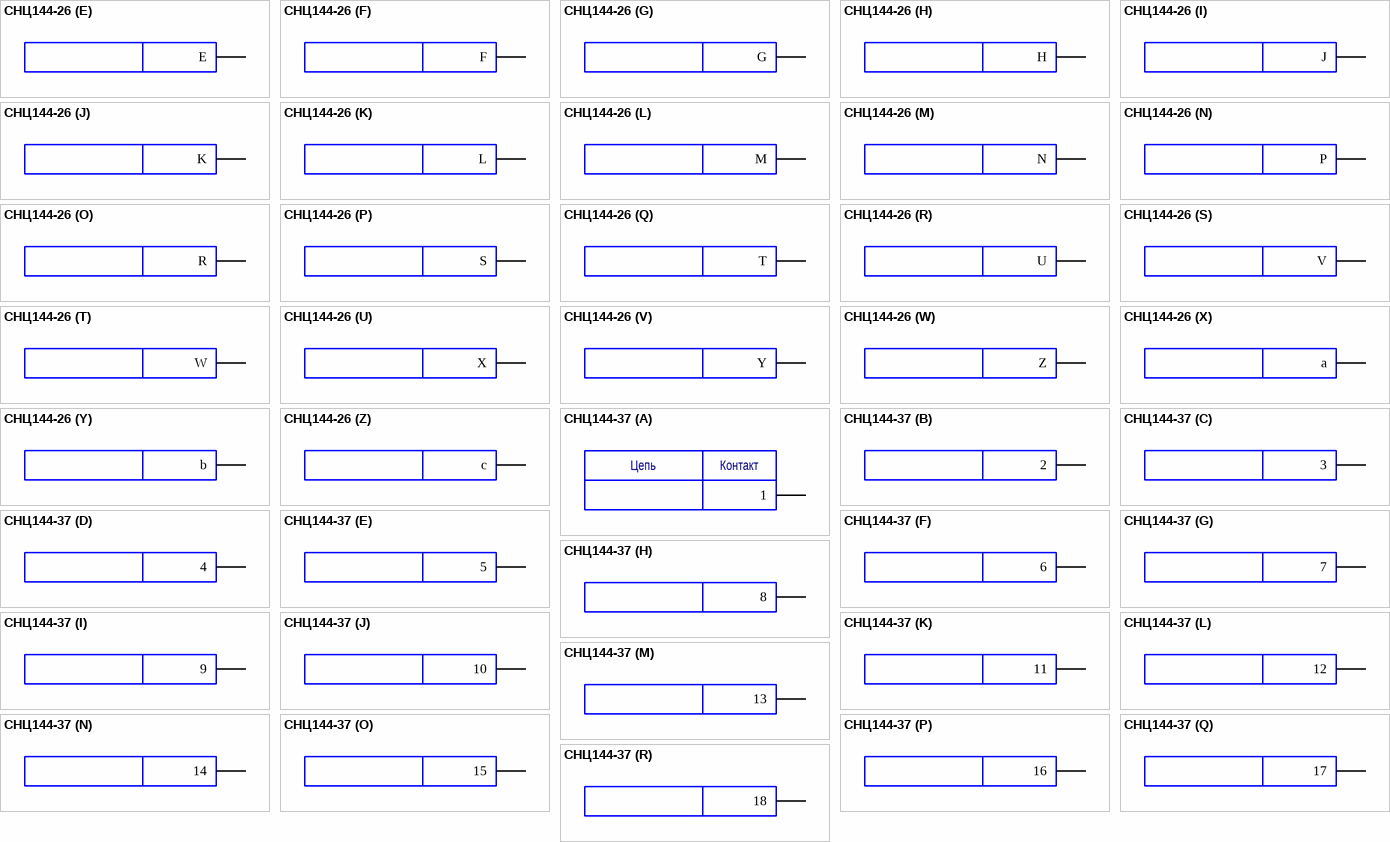
[diagram p6: symbols СНЦ144-26 to СНЦ144-37]

## СНЦ144-26
designator XP?  (value not drawn)
ВИЛКА СНЦ144-19 СОСТАВНАЯ; Value: Вилка СНЦ144-26/17ВП21-AWПС; TU: ЦСНК.430421.008ТУ
part A pins: A
part B pins: B
part C pins: C
part D pins: D
part E pins: E
part F pins: F
part G pins: G
part H pins: H
part I pins: J
part J pins: K
part K pins: L
part L pins: M
part M pins: N
part N pins: P
part O pins: R
part P pins: S
part Q pins: T
part R pins: U
part S pins: V
part T pins: W
part U pins: X
part V pins: Y
part W pins: Z
part X pins: a
part Y pins: b
part Z pins: c
part A text: Цепь; Контакт

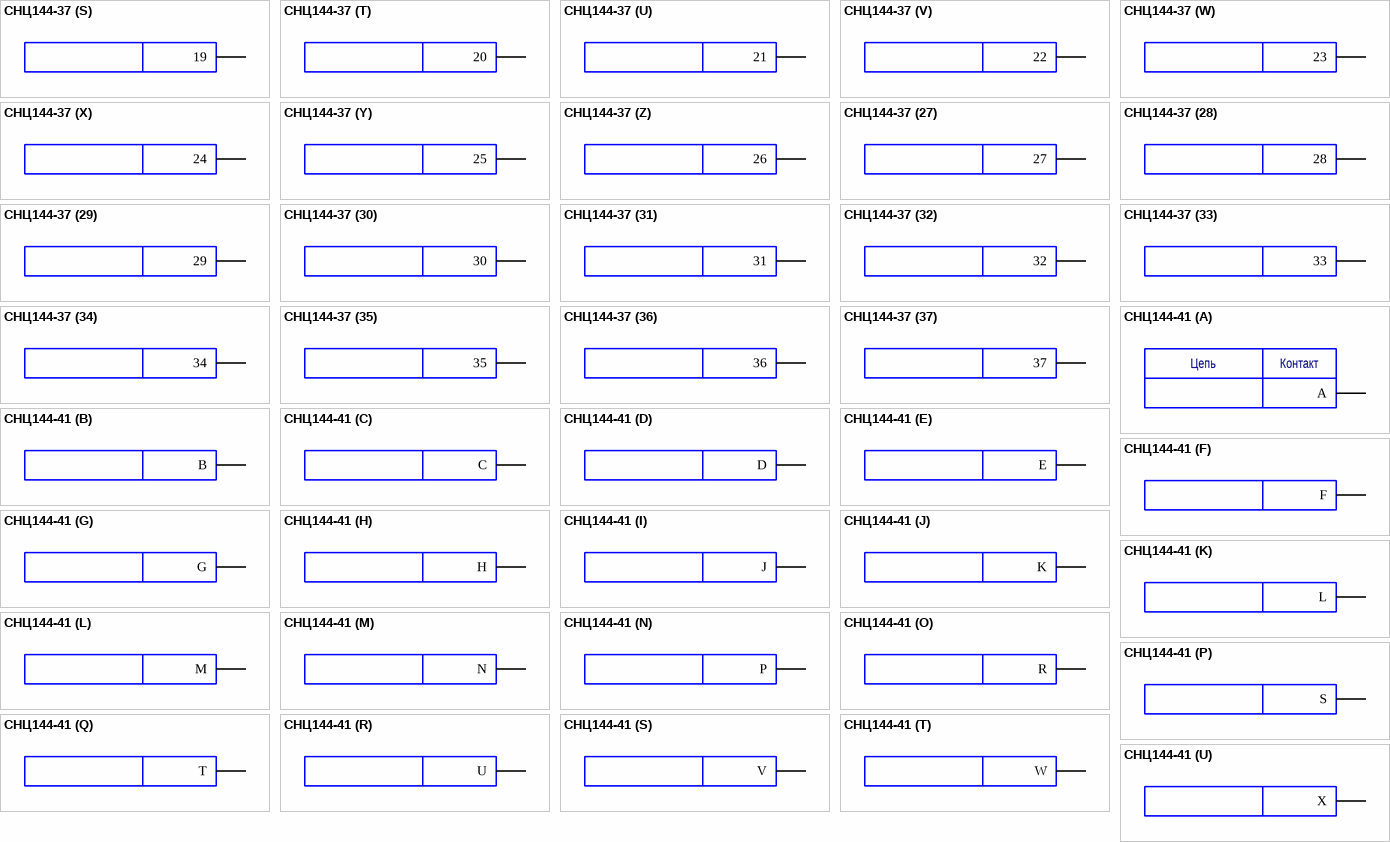
[diagram p7: symbols СНЦ144-37 to СНЦ144-41]

## СНЦ144-37
designator XP?  (value not drawn)
ВИЛКА СНЦ144-37 СОСТАВНАЯ; Value: Вилка СНЦ144-37/15ВП21-AWПС; TU: ЦСНК.430421.008ТУ; PartNumber: СНЦ144-37
part A pins: 1
part B pins: 2
part C pins: 3
part D pins: 4
part E pins: 5
part F pins: 6
part G pins: 7
part H pins: 8
part I pins: 9
part J pins: 10
part K pins: 11
part L pins: 12
part M pins: 13
part N pins: 14
part O pins: 15
part P pins: 16
part Q pins: 17
part R pins: 18
part S pins: 19
part T pins: 20
part U pins: 21
part V pins: 22
part W pins: 23
part X pins: 24
part Y pins: 25
part Z pins: 26
part 27 pins: 27
part 28 pins: 28
part 29 pins: 29
part 30 pins: 30
part 31 pins: 31
part 32 pins: 32
part 33 pins: 33
part 34 pins: 34
part 35 pins: 35
part 36 pins: 36
part 37 pins: 37
part A text: Цепь; Контакт

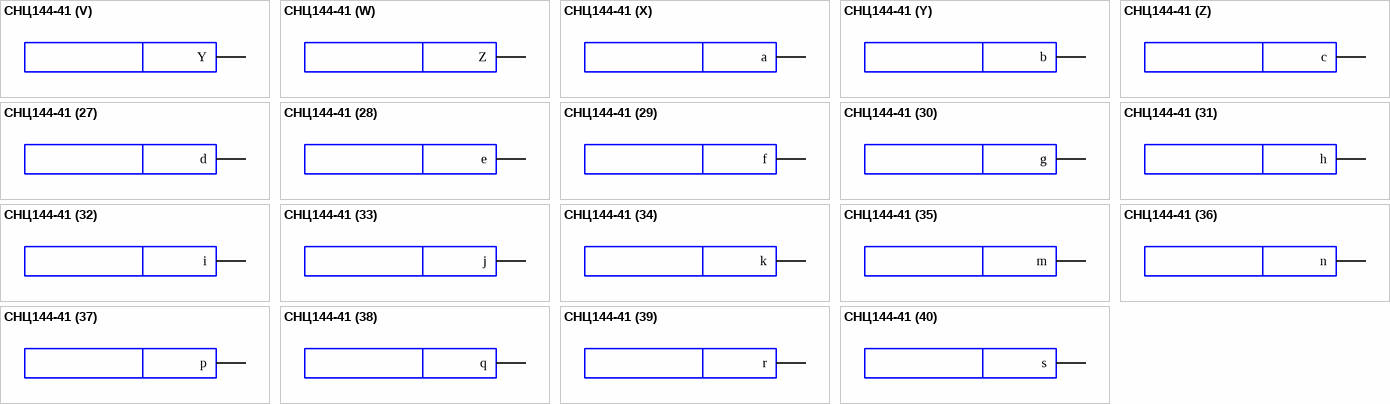
[diagram p8: symbol СНЦ144-41]

## СНЦ144-41
designator XP?  (value not drawn)
ВИЛКА СНЦ144-41 СОСТАВНАЯ; Value: Вилка СНЦ144-41/21ВП21-NWПС; TU: ЦСНК.430421.008ТУ
part A pins: A
part B pins: B
part C pins: C
part D pins: D
part E pins: E
part F pins: F
part G pins: G
part H pins: H
part I pins: J
part J pins: K
part K pins: L
part L pins: M
part M pins: N
part N pins: P
part O pins: R
part P pins: S
part Q pins: T
part R pins: U
part S pins: V
part T pins: W
part U pins: X
part V pins: Y
part W pins: Z
part X pins: aa a
part Y pins: bb b
part Z pins: cc c
part 27 pins: dd d
part 28 pins: ee e
part 29 pins: ff f
part 30 pins: gg g
part 31 pins: hh h
part 32 pins: ii i
part 33 pins: jj j
part 34 pins: kk k
part 35 pins: mm m
part 36 pins: nn n
part 37 pins: pp p
part 38 pins: qq q
part 39 pins: rr r
part 40 pins: ss s
part 41 pins: tt t
part A text: Цепь; Контакт